# EAGLE library part LM51231QRGRRQ1 (library LM51231QRGRRQ1)
Switching Controllers 2.2-MHz wide-VIN, synchronous boost controller with output voltage tracking Source: Datasheet <https://www.ti.com/lit/gpn/lm51231-q1>
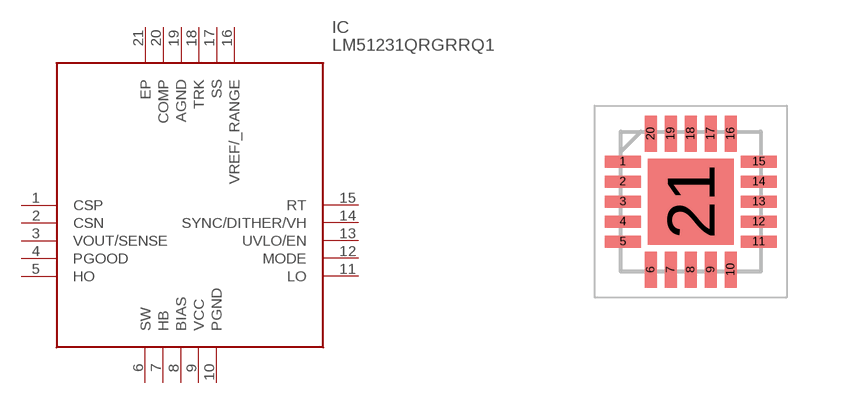
[diagram p0: symbol with the pads of QFN50P350X350X100-21N; footprint QFN50P350X350X100-21N]

Designator prefix IC

## LM51231QRGRRQ1 (Arrow_Part_Number: LM51231QRGRRQ1; Arrow_Price-Stock: null?region=nac; Description: Switching Controllers 2.2-MHz wide-VIN, synchronous boost controller with output voltage tracking; Height: 1mm; Manufacturer_Name: Texas Instruments; Manufacturer_Part_Number: LM51231QRGRRQ1; Mouser_Part_Number: 595-LM51231QRGRRQ1; Mouser_Price-Stock: https://www.mouser.co.uk/ProductDetail/Texas-Instruments/LM51231QRGRRQ1?qs=IPgv5n7u5QYUtrf8%252Bwemgg%3D%3D)  [QFN50P350X350X100-21N]
1  CSP
2  CSN
3  VOUT/SENSE
4  PGOOD
5  HO
6  SW
7  HB
8  BIAS
9  VCC
10  PGND
11  LO
12  MODE
13  UVLO/EN
14  SYNC/DITHER/VH
15  RT
16  VREF/_RANGE
17  SS
18  TRK
19  AGND
20  COMP
21  EP

## Footprint QFN50P350X350X100-21N (pad centres in mm)
LM51231QRGRRQ1aaa
smd 0.9 x 0.3: 1 -1.7,1; 2 -1.7,0.5; 3 -1.7,0; 4 -1.7,-0.5; 5 -1.7,-1; 11 1.7,-1; 12 1.7,-0.5; 13 1.7,0; 14 1.7,0.5; 15 1.7,1
smd 0.3 x 0.9: 6 -1,-1.7; 7 -0.5,-1.7; 8 0,-1.7; 9 0.5,-1.7; 10 1,-1.7; 16 1,1.7; 17 0.5,1.7; 18 0,1.7; 19 -0.5,1.7; 20 -1,1.7
smd 2.15 x 2.15: 21 0,0